# Altium schematic symbol library EEUFM1H471.SchLib: 1 symbol
Pins are listed as number, name and electrical type; pins without a type are passive.

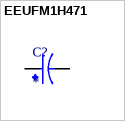
[diagram p0: symbol EEUFM1H471]

## EEUFM1H471
designator C?
FM-A; MF: {'manufacturer': u'Panasonic'}; MP: EEUFM1H471; Price: None; Availability: Unavailable; Value: *; Package: None
footprint CAPPRD500W60D1250H2000
pins: N, P